# Altium footprint library QFP80P1600X1600X120-64N.PcbLib: 1 footprints
Each footprint in its own frame and in the unit in brackets; x right, y up, seen from the top. Pads: shape width x height; smd on the part's side, far side on the other; paste and mask are expansions set on the pad; w line width, h text height; cw(c..) or ccw(c..) is an arc to the next point about the centre after c.
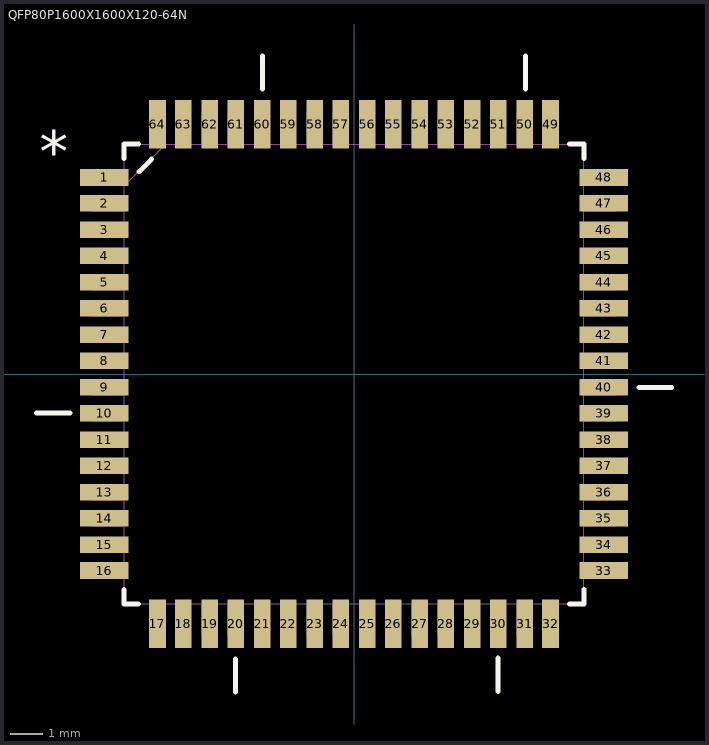
[diagram p0: the footprint, top view; thin cyan lines are the x and y axes]

## QFP80P1600X1600X120-64N [mil]
pads (64):
  rect 58x20 smd: 1(-300,236) 2(-300,205) 3(-300,173) 4(-300,142) 5(-300,110) 6(-300,79) 7(-300,47) 8(-300,16) 9(-300,-16) 10(-300,-47) 11(-300,-79) 12(-300,-110) 13(-300,-142) 14(-300,-173) 15(-300,-205) 16(-300,-236) 33(300,-236) 34(300,-205) 35(300,-173) 36(300,-142) 37(300,-110) 38(300,-79) 39(300,-47) 40(300,-16) 41(300,16) 42(300,47) 43(300,79) 44(300,110) 45(300,142) 46(300,173) 47(300,205) 48(300,236)
  rect 20x58 smd: 17(-236,-300) 18(-205,-300) 19(-173,-300) 20(-142,-300) 21(-110,-300) 22(-79,-300) 23(-47,-300) 24(-16,-300) 25(16,-300) 26(47,-300) 27(79,-300) 28(110,-300) 29(142,-300) 30(173,-300) 31(205,-300) 32(236,-300) 49(236,300) 50(205,300) 51(173,300) 52(142,300) 53(110,300) 54(79,300) 55(47,300) 56(16,300) 57(-16,300) 58(-47,300) 59(-79,300) 60(-110,300) 61(-142,300) 62(-173,300) 63(-205,300) 64(-236,300)
Top Overlay:
  lines w6: -381,-47 -341,-47 ; -276,-259 -276,-276 -259,-276 ; -276,259 -276,276 -259,276 ; -258,243 -243,258 ; -142,-382 -142,-342 ; -110,342 -110,382 ; 173,-381 173,-341 ; 206,342 206,382 ; 259,-276 276,-276 276,-259 ; 259,276 276,276 276,259 ; 342,-16 381,-16
  text "*" at -377,242 h50
  text "*" at -377,242 h50
Mechanical 13:
  drawing of 331 lines, arcs and shapes, not listed
  text "*" at -377,242 h50
  text "*" at -377,242 h50
3D body "step_temp.STEP": height 47.24, standoff 0, extent -314.96,-314.96 314.96,314.96